# Altium schematic symbol library ECS-.327-12.5-34B-TR.SchLib: 1 symbol
Pins are listed as number, name and electrical type; pins without a type are passive.

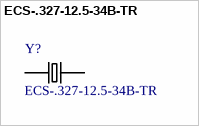
[diagram p0: symbol ECS-.327-12.5-34B-TR]

## ECS-.327-12.5-34B-TR
designator Y?
Crystal 0.032768MHz Â±20ppm _Tol_ 12.5pF Flexural 70000Ohm 2-Pin Mini-SMD T/R; MF: ECS Inc.; SnapEDA_Link: https://www.snapeda.com/parts/ECS-.327-12.5-34B-TR/ECS%20Inc./view-part/?ref=snap; Digi-Key_Part_Number: XC1617CT-ND; Digi-Key_Purchase_URL: https://www.digikey.com/product-detail/en/ecs-inc/ECS-.327-12.5-34B-TR/XC1617CT-ND/1693786?utm_source=snapeda&utm_medium=aggregator&utm_campaign=symbol; Package: SMD-2 ECS International; MP: ECS-.327-12.5-34B-TR; Value: *
footprint *XTAL_ECS-.327-12.5-34B-TR
pins: 1, 2